# Altium integrated library PR23-5V-900-1A.IntLib: 1 symbol
Pins are listed as number, name and electrical type; pins without a type are passive.

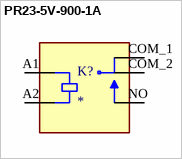
[diagram p0: symbol PR23-5V-900-1A]

## PR23-5V-900-1A
designator K?
27.4 x 31.8 x 20 mm, 5 V, 30 A, SPST (1 Form A), Power Relay; MF: Same Sky; MP: PR23-5V-900-1A; SnapEDA_Link: https://www.snapeda.com/parts/PR23-5V-900-1A/Same+Sky/view-part/?ref=snap; Package: None; Value: *; Check_prices: https://www.snapeda.com/parts/PR23-5V-900-1A/Same+Sky/view-part/?ref=eda
footprint RELAY_PR23-5V-900-1A
pins: A1 COIL1, A2 COIL2, COM_1 COM1, COM_2 COM2, NO